# EAGLE library part PIC16F18346 (library U-PIC)
PIC16F18346 MCU 16 Kword FLASH (e.g. 28KB program memory) 2k bytes SRAM 256 bytes EEPROM 1 EUSART 2 I2C slave 2 SPI (programing port) 32 MHz on chip oscillator 8 MIPS
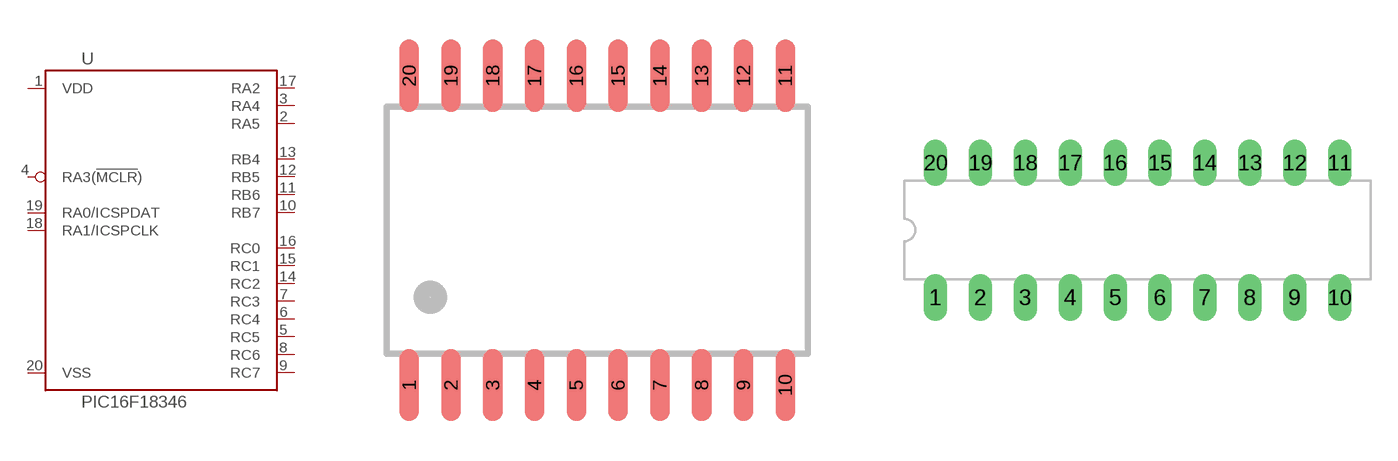
[diagram p0: symbol with the pads of SOIC20; footprints SOIC20, DIL20]

Designator prefix U

## PIC16F18346T-I/SO  [SOIC20]
1  VDD  pwr
2  RA5
3  RA4
4  RA3(!MCLR!)
5  RC5
6  RC4
7  RC3
8  RC6
9  RC7
10  RB7
11  RB6
12  RB5
13  RB4
14  RC2
15  RC1
16  RC0
17  RA2
18  RA1/ICSPCLK
19  RA0/ICSPDAT
20  VSS  pwr

## PIC16F18346-I/P  [DIL20]
Pads as for SOIC20

## Footprint SOIC20 (pad centres in mm)
Small Outline [SOIC] 20 Lead 7.5mm wide 1.27mm pitch
smd 0.6 x 2.2: 1 -5.715,-4.7; 2 -4.445,-4.7; 3 -3.175,-4.7; 4 -1.905,-4.7; 5 -0.635,-4.7; 6 0.635,-4.7; 7 1.905,-4.7; 8 3.175,-4.7; 9 4.445,-4.7; 10 5.715,-4.7; 11 5.715,4.7; 12 4.445,4.7; 13 3.175,4.7; 14 1.905,4.7; 15 0.635,4.7; 16 -0.635,4.7; 17 -1.905,4.7; 18 -3.175,4.7; 19 -4.445,4.7; 20 -5.715,4.7

## Footprint DIL20 (pad centres in mm)
Dual In Line
drill 0.813 long: 1 -11.43,-3.81; 2 -8.89,-3.81; 3 -6.35,-3.81; 4 -3.81,-3.81; 5 -1.27,-3.81; 6 1.27,-3.81; 7 3.81,-3.81; 8 6.35,-3.81; 9 8.89,-3.81; 10 11.43,-3.81; 11 11.43,3.81; 12 8.89,3.81; 13 6.35,3.81; 14 3.81,3.81; 15 1.27,3.81; 16 -1.27,3.81; 17 -3.81,3.81; 18 -6.35,3.81; 19 -8.89,3.81; 20 -11.43,3.81